# EAGLE library part CP2102_BREAKOUT (library e-radionica_E-R MADE)
SKU: 100033 v2 This little adapter converts USB communication to UART using Silabs CP2102 bridge. In addition to standard UART pins(DTR, RXD, TXD, VCC, CTS, GND), other pins available from the chip can be accessed from header, which include: RST, Suspend, Suspend ', RI, DCD, DSR , RTS, CTS. Onboard, there are voltage regulator and switch which determines the output voltage of 3.3V or 5V, depending on the device you are using. Logic UART signal is always 3.3V, but nevertheless 5V devices will work without problems. There are also three LEDs, one for power indicator and one for each direction of UART communication. • Dimensions: 25 x 35 mm • USB - UART bridge: CP2102 • Input voltage: 5V (USB) • Output voltage: 3.3V ili 5V • Logic of UART signal: 3.3V
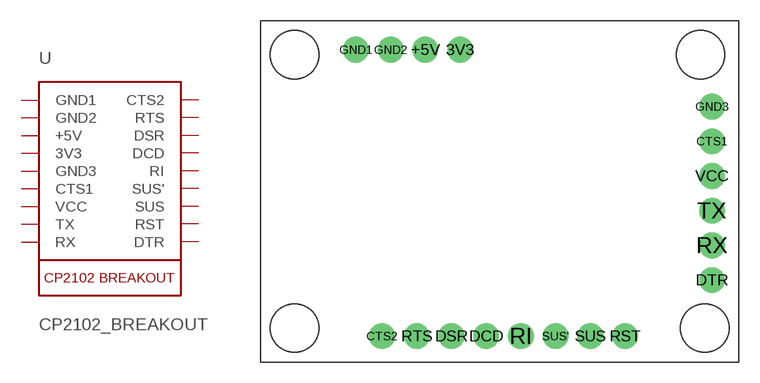
[diagram p9: symbol with the pads of CP2102_BREAKOUT; footprint CP2102_BREAKOUT]

Designator prefix -

## CP2102_BREAKOUT  [CP2102_BREAKOUT]
3V3  3V3  sup
+5V  +5V  sup
CTS1  CTS1
CTS2  CTS2
DCD  DCD
DSR  DSR
DTR  DTR
GND1  GND1  sup
GND2  GND2  sup
GND3  GND3  sup
RI  RI
RST  RST
RTS  RTS
RX  RX
SUS  SUS
SUS'  SUS'
TX  TX
VCC  VCC  sup

## Footprint CP2102_BREAKOUT (pad centres in mm)
drill 1.016 pad 1.88: 3V3 14.605,22.86; +5V 12.065,22.86; CTS1 33.02,16.165; CTS2 8.89,1.905; DCD 16.51,1.905; DSR 13.97,1.905; DTR 33.02,6.005; GND1 6.985,22.86; GND2 9.525,22.86; GND3 33.02,18.705; RI 19.05,1.905; RST 26.67,1.905; RTS 11.43,1.905; RX 33.02,8.545; SUS 24.13,1.905; SUS' 21.59,1.905; TX 33.02,11.085; VCC 33.02,13.625